# Altium footprint library SparkFun-Passives.PCBLIB: 100 footprints (part 6 of 7)
Each footprint in its own frame and in the unit in brackets; x right, y up, seen from the top. Pads: shape width x height; smd on the part's side, far side on the other; paste and mask are expansions set on the pad; w line width, h text height; cw(c..) or ccw(c..) is an arc to the next point about the centre after c.
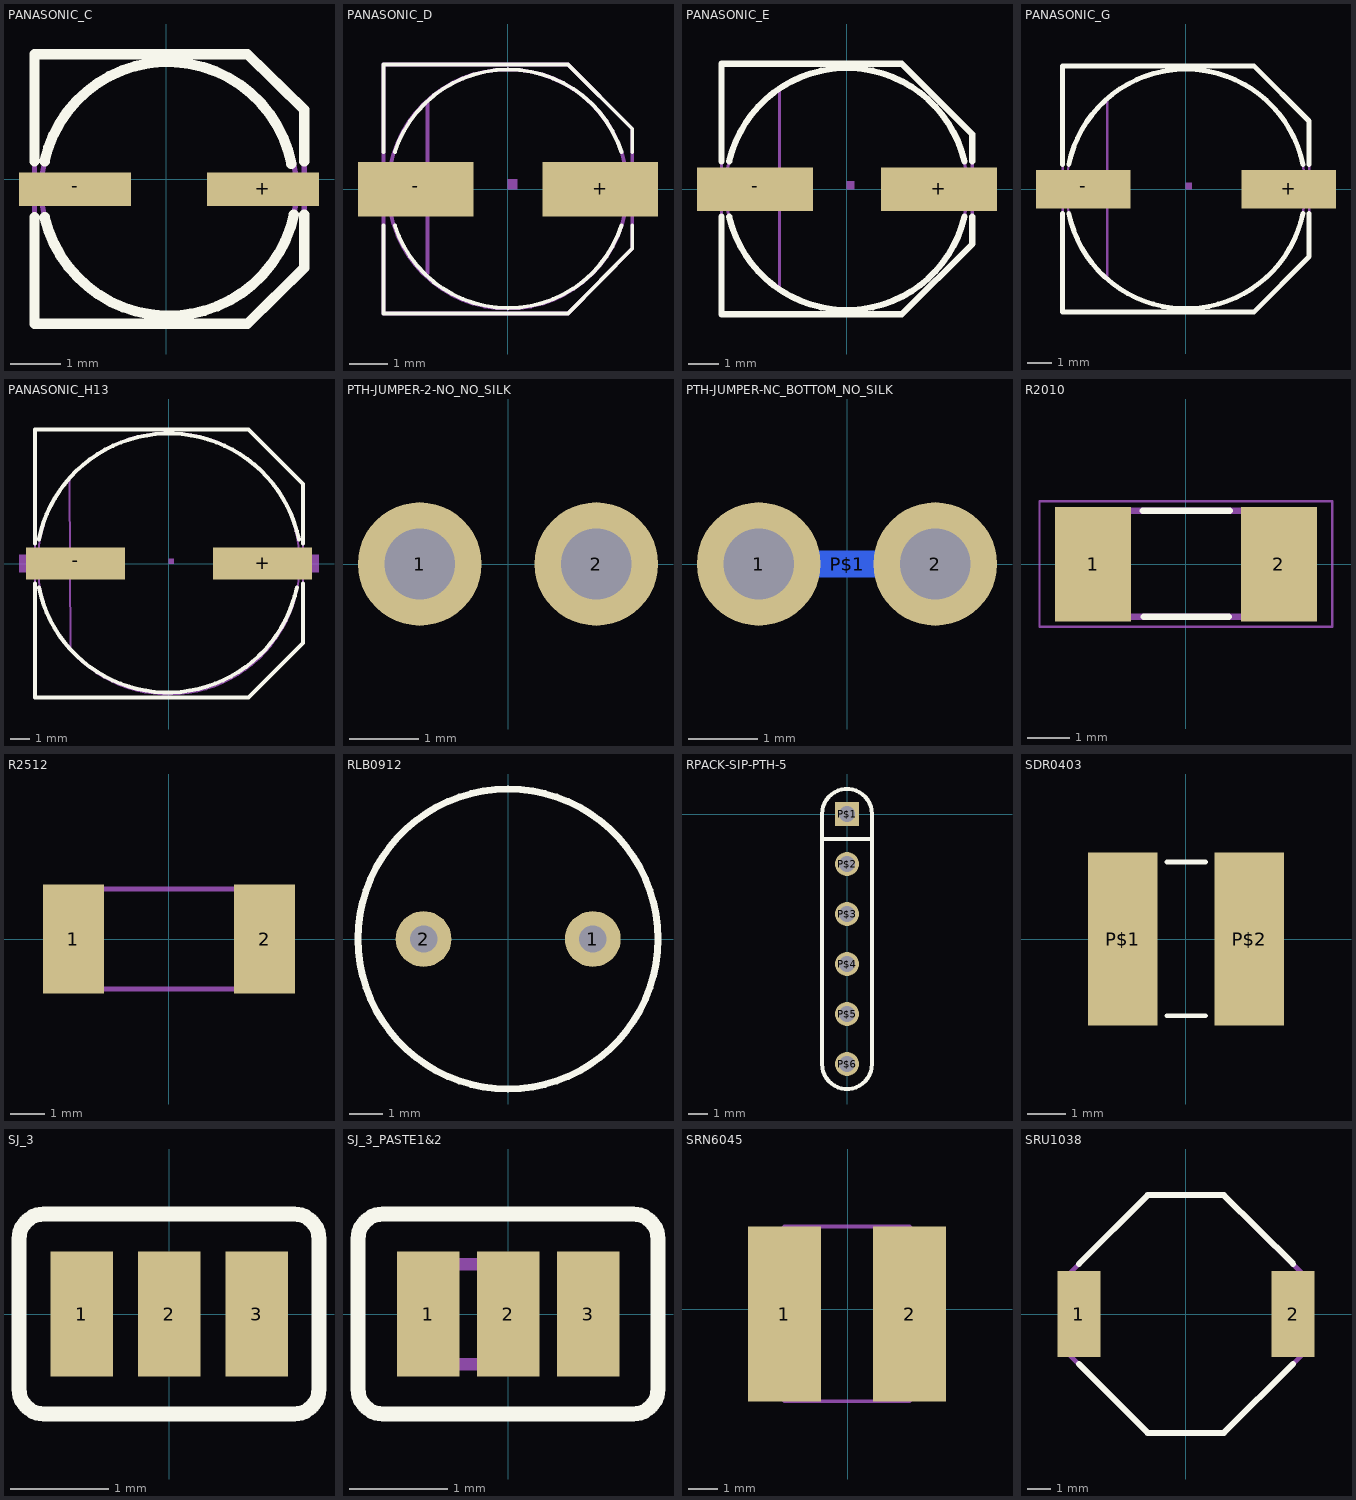
[diagram p5: the footprints below, top view; thin cyan lines are the x and y axes]

## PANASONIC_C [mil]
pads (2):
  rect 87x26 smd: +(75,-7.87) -(-70.87,-7.87)
Top Overlay:
  lines w8: -102.36,-29.53 -102.36,-112.2 63,-112.2 107,-68.9 107,-27.56 ; -102.36,14 -102.36,97 63,97 107,54 107,14 ; -94.49,-29.53 ccw(c2.03,-6.83) 99,-27.56 ; -94.49,14 cw(c1.05,-6.74) 97,12
Mechanical 2:
  text ">NAME" at -102.36,107 h24.8
Mechanical 4:
  text ">VALUE" at -102.36,-135.83 h24.8
Mechanical 16:
  circle w4: c2,-7.87 r99
  lines w4: -102.36,-112.2 63,-112.2 107,-68.9 107,54 63,97 -102.36,97 -102.36,-112.2

## PANASONIC_D [mil]
pads (2):
  rect 119x56 smd: +(95,0) -(-94.49,0)
Top Overlay:
  lines w4: -127.95,-37.4 -127.95,-127.95 62,-127.95 128,-61.02 128,-37.4 ; -127.95,38 -127.95,128 62,128 128,62 128,38 ; -116.14,-37.4 ccw(c0.43,0.14) 117,-37.4 ; -116.14,38 cw(c0.43,0.46) 117,38
Mechanical 2:
  text ">NAME" at -68.9,40 h62
Mechanical 4:
  text ">VALUE" at -68.9,-77.76 h62
Mechanical 16:
  circle w4: c0,0 r123
  rectangle: -143.7,-13.78 -120.08,14
  rectangle: 121,-13.78 144,14
  region: 0,0 10,0 10,10 0,10
  lines w4: -82.68,-86.61 -82.68,89 ; -127.95,-127.95 62,-127.95 128,-61.02 128,62 62,128 -127.95,128 -127.95,-127.95

## PANASONIC_E [mil]
pads (2):
  rect 150x56 smd: +(119,0) -(-118.11,0)
Top Overlay:
  lines w8: -161.42,-35.43 -161.42,-161.42 71,-161.42 162,-70.87 162,-35.43 ; -161.42,36 -161.42,162 71,162 162,71 162,36 ; -151.57,-35.43 ccw(c0.21,0.05) 152,-35.43 ; -151.57,36 cw(c0.21,0.52) 152,36
Mechanical 2:
  text ">NAME" at -50,50 h24.8
Mechanical 4:
  text ">VALUE" at -50,-100 h24.8
Mechanical 16:
  circle w4: c0,0 r156
  rectangle: -177.17,-13.78 -149.61,14
  rectangle: 150,-13.78 178,14
  region: 0,0 10,0 10,10 0,10
  lines w4: -86.61,-127.95 -86.61,128 ; -161.42,-161.42 71,-161.42 162,-70.87 162,71 71,162 -161.42,162 -161.42,-161.42

## PANASONIC_G [mil]
pads (2):
  rect 154x63 smd: +(168,0) -(-167.32,0)
Top Overlay:
  lines w8: -200.79,-39.37 -200.79,-200.79 111,-200.79 201,-110.24 201,-39.37 ; -200.79,40 -200.79,201 111,201 201,111 201,40 ; -190.94,-39.37 ccw(c0.03,0.01) 191,-39.37 ; -190.94,40 cw(c0.03,0.62) 191,40
Mechanical 2:
  text ">NAME" at -50,50 h24.8
Mechanical 4:
  text ">VALUE" at -50,-100 h24.8
Mechanical 16:
  circle w4: c0,0 r195
  rectangle: -230.31,-17.72 -192.91,18
  rectangle: 193,-17.72 231,18
  region: 0,0 10,0 10,10 0,10
  lines w4: -127.95,-143.7 -127.95,146 ; -200.79,-200.79 111,-200.79 201,-110.24 201,111 111,201 -200.79,201 -200.79,-200.79

## PANASONIC_H13 [mil]
pads (2):
  rect 197x63 smd: +(186,0) -(-185.04,0)
Top Overlay:
  lines w8: -265.75,-39.37 -265.75,-265.75 158,-265.75 266,-157.48 266,-39.37 ; -265.75,40 -265.75,266 158,266 266,158 266,40 ; -257.87,-47.24 ccw(c-1.94,5.54) 254,-47.24 ; -257.87,48 cw(c0.06,-5.19) 258,48
Mechanical 2:
  text ">NAME" at -50,50 h24.8
Mechanical 4:
  text ">VALUE" at -50,-100 h24.8
Mechanical 16:
  circle w4: c0,0 r260
  rectangle: -297.24,-17.72 -259.84,18
  rectangle: 260,-17.72 298,18
  region: 0,0 10,0 10,10 0,10
  lines w4: -196.85,168 -194.88,-171.26 ; -265.75,-265.75 158,-265.75 266,-157.48 266,158 158,266 -265.75,266 -265.75,-265.75

## PTH-JUMPER-2-NO_NO_SILK [mil]
pads (2):
  round 70 hole 40: 1(-50,0) 2(50,0)
Mechanical 2:
  text ">NAME" at -100,-50 h24.8
Mechanical 4:
  text ">VALUE" at 0,-50 h24.8

## PTH-JUMPER-NC_BOTTOM_NO_SILK [mil]
pads (3):
  round 70 hole 40: 1(-50,0) 2(50,0)
  rect 50x15 smd far side: P$1(0,0)
Bottom Solder:
  rectangle: -12,-50 12,50
Mechanical 2:
  text ">NAME" at -100,-50 h24.8
Mechanical 4:
  text ">VALUE" at 0,-50 h24.8

## R2010 [mil]
pads (2):
  rect 71x107 smd: 1(-86.61,0) 2(87,0)
Top Overlay:
  lines w6: -40.43,50 41,50 ; -39.45,-49.02 40,-49.02
Mechanical 2:
  text ">NAME" at -100,63 h24.8
Mechanical 4:
  text ">VALUE" at -100,-80 h24.8
Mechanical 16:
  rectangle: -98,-52 -64.54,53
  rectangle: 65,-52 99,53
  lines w6: -65.43,50 66,50 ; -64.45,-49.02 67,-49.02
Mechanical 27:
  lines w2: -136.73,-58.39 137,-58.39 137,59 -136.73,59 -136.73,-58.39

## R2512 [mil]
pads (2):
  rect 71x126 smd: 1(-110.24,0) 2(111,0)
Mechanical 2:
  text ">NAME" at -100,75 h77.5
Mechanical 4:
  text ">VALUE" at -100,-125 h77.5
Mechanical 16:
  rectangle: -126,-61 -92.54,62
  rectangle: 93,-61 127,62
  lines w6: -92.99,-57.99 94,-57.99 ; -92.99,58 94,58

## RLB0912 [mil]
pads (2):
  round 65 hole 32: 1(99,0) 2(-98.5,0)
Top Overlay:
  circle w8: c0,0 r175
Mechanical 2:
  text ">Name" at -30,115 h24.8
Mechanical 4:
  text ">Value" at -75,-120 h49.6

## RPACK-SIP-PTH-5 [mil]
pads (6):
  rect 48x48 hole 32: P$1(0,0)
  round 48 hole 32: P$2(0,-100) P$3(0,-200) P$4(0,-300) P$5(0,-400) P$6(0,-500)
Top Overlay:
  lines w8: -50,-50 -50,0 cw(c0,0) 50,0 50,-50 ; -50,-50 -50,-500 ccw(c0,-500) 50,-500 50,-50 ; -50,-50 50,-50
Mechanical 2:
  text ">NAME" at -70,-500 h77.5
Mechanical 4:
  text ">VALUE" at -120,0 h77.5

## SDR0403 [mil]
pads (2):
  rect 71x178 smd: P$1(-64.96,0) P$2(65,0)
Top Overlay:
  lines w5: -19.68,-78.74 20,-78.74 ; -19.68,79 20,79
Mechanical 2:
  text ">NAME" at -35,40 h24.8
Mechanical 4:
  text ">VALUE" at -30,-10 h24.8

## SJ_3 [mil]
pads (3):
  rect 25x50 smd: 1(-35,0) 2(0,0) 3(35,0)
Top Overlay:
  lines w6: -60,-30 ccw(c-50,-30) -50,-40 50,-40 ccw(c50,-30) 60,-30 60,30 ccw(c50,30) 50,40 -50,40 ccw(c-50,30) -60,30 -60,-30
Mechanical 2:
  text ">NAME" at -50,50 h24.8
Mechanical 4:
  text ">VALUE" at -3.94,0 h1.55
  text ">VALUE" at -50,-75 h24.8

## SJ_3_PASTE1&2 [mil]
pads (3):
  rect 25x50 smd: 1(-32,0) 2(0,0) 3(32,0)
Top Overlay:
  lines w6: -60,-30 ccw(c-50,-30) -50,-40 50,-40 ccw(c50,-30) 60,-30 60,30 ccw(c50,30) 50,40 -50,40 ccw(c-50,30) -60,30 -60,-30
Top Paste:
  rectangle: -57,-40 11,37
Mechanical 2:
  text ">NAME" at -50,50 h24.8
Mechanical 4:
  text ">VALUE" at -3.94,0 h1.55
  text ">VALUE" at -50,-75 h24.8
Mechanical 16:
  lines w5: -40,-20 -40,20 8,20 8,-20 -40,-20
  text "PASTE" at -30,-17.5 h15.5

## SRN6045 [mil]
pads (2):
  rect 99x237 smd: 1(-85.63,-6.89) 2(84,-6.89)
Mechanical 2:
  text ">NAME" at -164.37,151 h77.5
Mechanical 4:
  text ">VALUE" at -164.37,-203.74 h77.5
Mechanical 16:
  lines w5: -125,-85.63 -85.63,-125 84,-125 124,-85.63 124,72 84,112 -85.63,112 -125,72 -125,-85.63

## SRU1038 [mil]
pads (2):
  rect 71x142 smd: 1(-177.17,0) 2(178,0)
Top Overlay:
  lines w10: -177.17,-82.68 -62.99,-196.85 63,-196.85 178,-82.68 ; -177.17,83 -62.99,197 63,197 178,83
Mechanical 2:
  text ">Name" at -100,100 h62
Mechanical 4:
  text ">Value" at -100,-130 h62
Mechanical 16:
  lines w8: -196.85,-62.99 -196.85,63 -62.99,197 63,197 197,63 197,-62.99 63,-196.85 -62.99,-196.85 -196.85,-62.99